# Altium footprint library PCB - CAPACITOR - ALUMINIUM - CAP ALSMD 8.3MM H10.5MM.PCBLIB: 1 footprints
Each footprint in its own frame and in the unit in brackets; x right, y up, seen from the top. Pads: shape width x height; smd on the part's side, far side on the other; paste and mask are expansions set on the pad; w line width, h text height; cw(c..) or ccw(c..) is an arc to the next point about the centre after c.
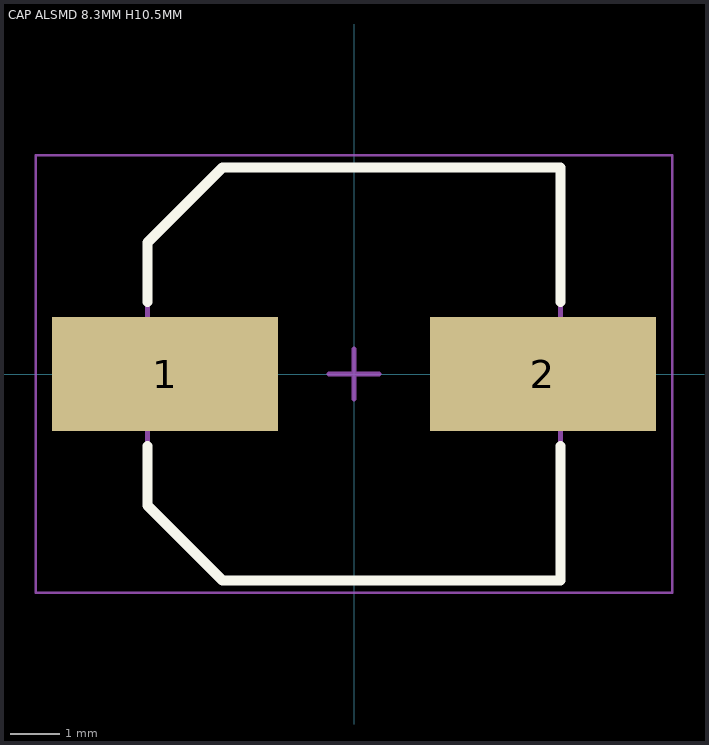
[diagram p0: the footprint, top view; thin cyan lines are the x and y axes]

## CAP ALSMD 8.3MM H10.5MM [mm] "Aluminum Electrolytic Capacitor, Body 8.30x8.30x10.50mm, IPC Low Density"
height 10.5
pads (2):
  rect 4.55x2.3 smd: 1(-3.8,0) 2(3.8,0)
Top Overlay:
  lines w0.2: -4.15,-1.45 -4.15,-2.65 -2.65,-4.15 4.15,-4.15 4.15,-1.45 ; -4.15,1.45 -4.15,2.65 -2.65,4.15 4.15,4.15 4.15,1.45
Mechanical 13:
  lines w0.1: -4.15,-2.65 -4.15,2.65 -2.65,4.15 4.15,4.15 4.15,-4.15 -2.65,-4.15 -4.15,-2.65
Mechanical 15:
  lines w0.05: -6.4,-4.4 6.4,-4.4 6.4,4.4 -6.4,4.4 -6.4,-4.4
  lines w0.1: -0.5,0 0.5,0 ; 0,-0.5 0,0.5
3D body "CAP ALUM 8_3mm.STEP": height 10.5, standoff 0, extent -4.95,-4.15 4.95,4.15